# Altium footprint library TPS7A2133PQWDRBRQ1.PcbLib: 1 footprints
Each footprint in its own frame and in the unit in brackets; x right, y up, seen from the top. Pads: shape width x height; smd on the part's side, far side on the other; paste and mask are expansions set on the pad; w line width, h text height; cw(c..) or ccw(c..) is an arc to the next point about the centre after c.
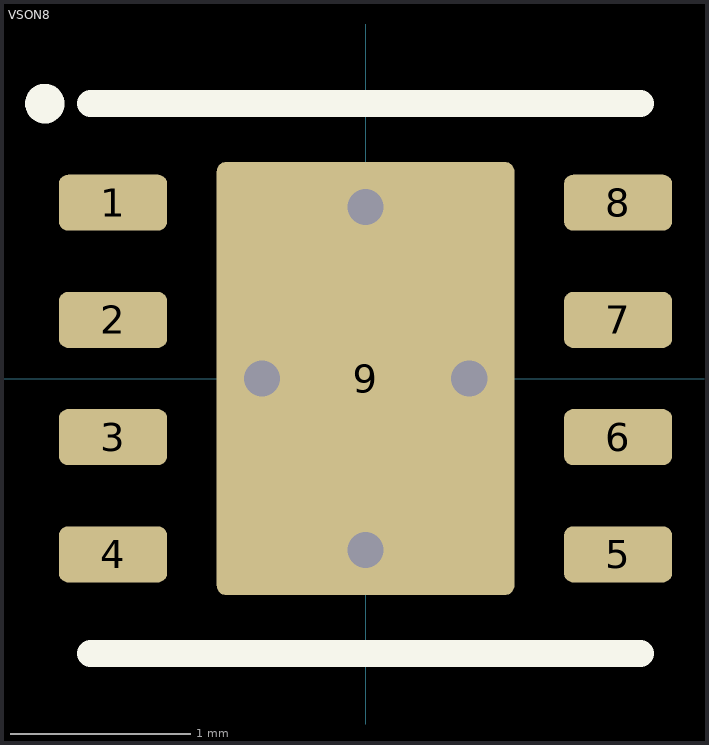
[diagram p0: the footprint, top view; thin cyan lines are the x and y axes]

## VSON8 [mm]
height 1
pads (11):
  rrect32% 0.6x0.31 smd mask+0.07: 1(-1.4,0.975) 2(-1.4,0.325) 3(-1.4,-0.325) 4(-1.4,-0.975) 5(1.4,-0.975) 6(1.4,-0.325) 7(1.4,0.325) 8(1.4,0.975)
  rrect6% 1.65x2.4 smd paste-2539.97 mask+0.07: 9(0,0)
  rrect10% 1.51x1.06 on Top Paste: ""(0,-0.63) ""(0,0.63)
via 0,-0.95 diameter 0.3 hole 0.2
via 0,0.95 diameter 0.3 hole 0.2
via 0.575,0 diameter 0.3 hole 0.2
via -0.575,0 diameter 0.3 hole 0.2
Top Overlay:
  circle w0.12: c-1.778,1.524 r0.05
  lines w0.15: -1.524,-1.524 1.524,-1.524 ; -1.524,1.524 1.524,1.524
3D body "DRB0008J.step": height 1, standoff 0, extent -1.5,-1.5 1.5,1.5